# Altium footprint library PcbLib1.PcbLib: 2 footprints
Each footprint in its own frame and in the unit in brackets; x right, y up, seen from the top. Pads: shape width x height; smd on the part's side, far side on the other; paste and mask are expansions set on the pad; w line width, h text height; cw(c..) or ccw(c..) is an arc to the next point about the centre after c.
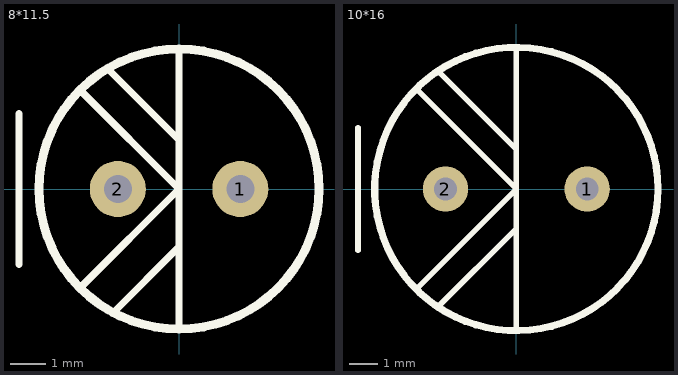
[diagram p0: the footprints below, top view; thin cyan lines are the x and y axes]

## 8*11.5 [mm] "CAP"
pads (2):
  round 1.6 hole 0.8: 1(1.75,0) 2(-1.75,0)
Top Overlay:
  circle w0.254: c0,0 r4
  lines w0.2: -4.572,-2.159 -4.572,2.159 ; -2.794,-2.794 0,0 ; -2.794,2.794 0,0 ; -2.032,3.429 0,1.397 0,0 ; -1.905,-3.556 0,-1.651 0,0 ; 0,-3.937 0,3.937

## 10*16 [mm]
pads (2):
  round 1.6 hole 0.8: 1(2.5,0) 2(-2.5,0)
Top Overlay:
  circle w0.254: c0,0 r5
  lines w0.2: -5.588,-2.159 -5.588,2.159 ; -3.492,-3.492 0,0 ; -3.492,3.492 0,0 ; -2.794,-4.191 0,-1.397 ; -2.73,4.127 0,1.397 0,0 ; 0,-4.953 0,4.953 ; 0,-1.651 0,0